# Altium schematic symbol library GPSLIB.SchLib: 2 symbols
Pins are listed as number, name and electrical type; pins without a type are passive.

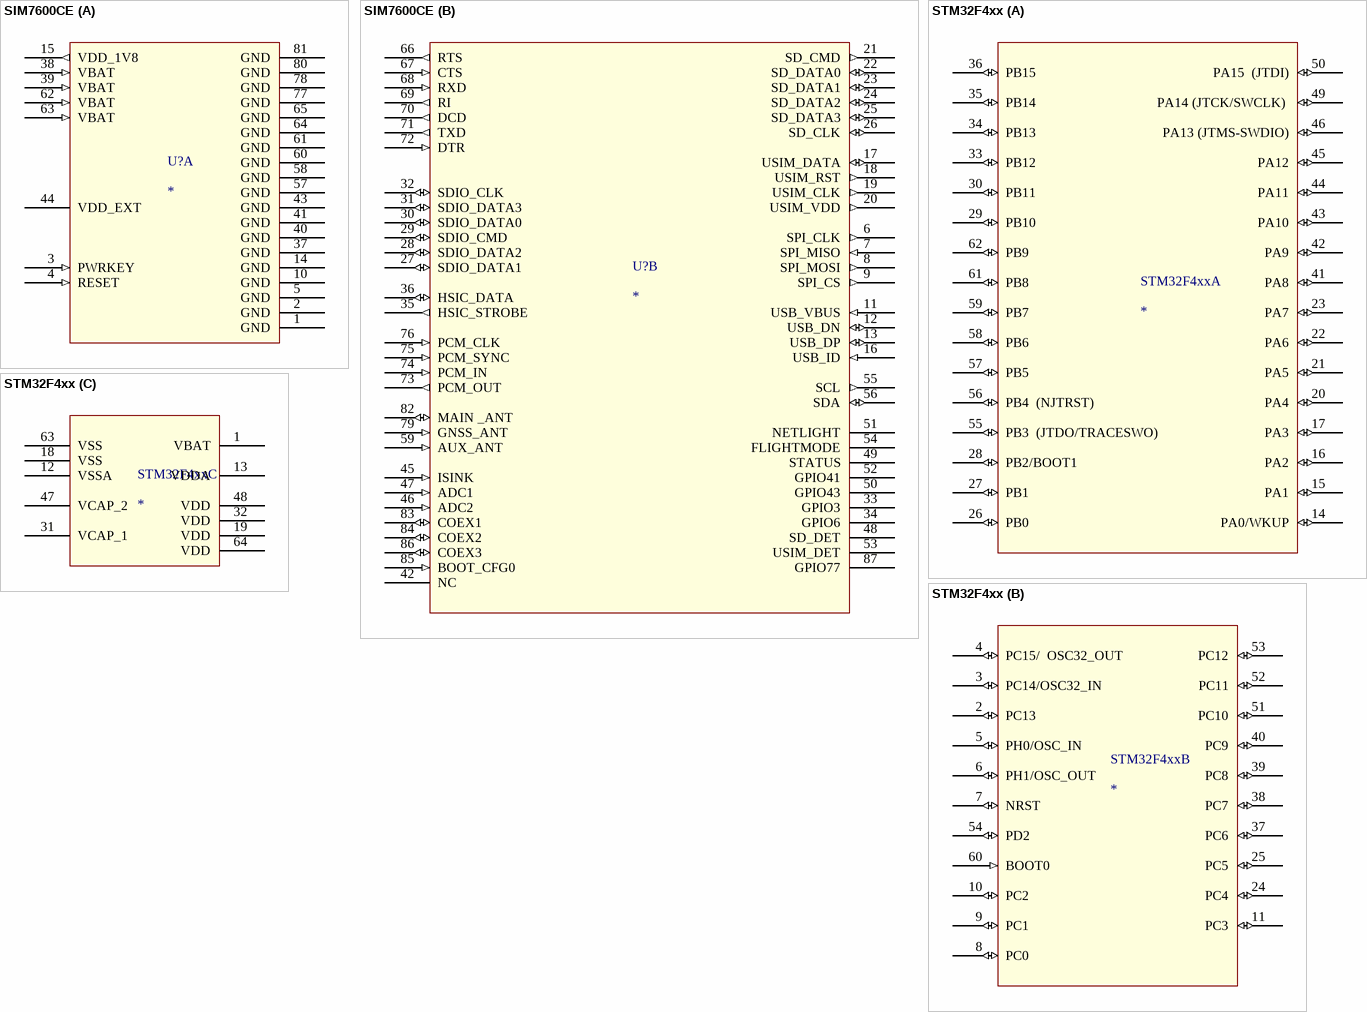
[diagram p0: symbols SIM7600CE to STM32F4xx]

## SIM7600CE
designator U?
footprint sim7600ce (Module sim 7600CE)
part A pins: 1 GND (power), 2 GND (power), 3 PWRKEY (in), 4 RESET (in), 5 GND (power), 10 GND (power), 14 GND (power), 15 VDD_1V8 (out), 37 GND (power), 38 VBAT (in), 39 VBAT (in), 40 GND (power), 41 GND (power), 43 GND (power), 44 VDD_EXT (power), 57 GND (power), 58 GND (power), 60 GND (power), 61 GND (power), 62 VBAT (in), 63 VBAT (in), 64 GND (power), 65 GND (power), 77 GND (power), 78 GND (power), 80 GND (power), 81 GND (power)
part B pins: 6 SPI_CLK (out), 7 SPI_MISO (in), 8 SPI_MOSI (out), 9 SPI_CS (out), 11 USB_VBUS (in), 12 USB_DN (io), 13 USB_DP (io), 16 USB_ID (in), 17 USIM_DATA (io), 18 USIM_RST (out), 19 USIM_CLK (out), 20 USIM_VDD (out), 21 SD_CMD (out), 22 SD_DATA0 (io), 23 SD_DATA1 (io), 24 SD_DATA2 (io), 25 SD_DATA3 (io), 26 SD_CLK (io), 27 SDIO_DATA1 (io), 28 SDIO_DATA2 (io), 29 SDIO_CMD (io), 30 SDIO_DATA0 (io), 31 SDIO_DATA3 (io), 32 SDIO_CLK (io), 33 GPIO3, 34 GPIO6, 35 HSIC_STROBE (out), 36 HSIC_DATA (io), 42 NC, 45 ISINK (in), 46 ADC2 (in), 47 ADC1 (in), 48 SD_DET, 49 STATUS, 50 GPIO43, 51 NETLIGHT, 52 GPIO41, 53 USIM_DET, 54 FLIGHTMODE, 55 SCL (out), 56 SDA (io), 59 AUX_ANT (in), 66 RTS (out), 67 CTS (in), 68 RXD (in), 69 RI (out), 70 DCD (out), 71 TXD (out), 72 DTR (in), 73 PCM_OUT (out), 74 PCM_IN (in), 75 PCM_SYNC (in), 76 PCM_CLK (in), 79 GNSS_ANT (in), 82 MAIN _ANT (io), 83 COEX1 (io), 84 COEX2 (io), 85 BOOT_CFG0 (in), 86 COEX3 (io), 87 GPIO77

## STM32F4xx
designator STM32F4xx
footprint STM32F4xx
part A pins: 14 PA0/WKUP (io), 15 PA1 (io), 16 PA2 (io), 17 PA3 (io), 20 PA4 (io), 21 PA5 (io), 22 PA6 (io), 23 PA7 (io), 26 PB0 (io), 27 PB1 (io), 28 PB2/BOOT1 (io), 29 PB10 (io), 30 PB11 (io), 33 PB12 (io), 34 PB13 (io), 35 PB14 (io), 36 PB15 (io), 41 PA8 (io), 42 PA9 (io), 43 PA10 (io), 44 PA11 (io), 45 PA12 (io), 46 PA13 (JTMS-SWDIO) (io), 49 PA14 (JTCK/SWCLK)  (io), 50 PA15  (JTDI) (io), 55 PB3  (JTDO/TRACESWO) (io), 56 PB4  (NJTRST) (io), 57 PB5 (io), 58 PB6 (io), 59 PB7 (io), 61 PB8 (io), 62 PB9 (io)
part B pins: 2 PC13 (io), 3 PC14/OSC32_IN (io), 4 PC15/  OSC32_OUT (io), 5 PH0/OSC_IN (io), 6 PH1/OSC_OUT (io), 7 NRST (io), 8 PC0 (io), 9 PC1 (io), 10 PC2 (io), 11 PC3 (io), 24 PC4 (io), 25 PC5 (io), 37 PC6 (io), 38 PC7 (io), 39 PC8 (io), 40 PC9 (io), 51 PC10 (io), 52 PC11 (io), 53 PC12 (io), 54 PD2 (io), 60 BOOT0 (in)
part C pins: 1 VBAT (power), 12 VSSA (power), 13 VDDA (power), 18 VSS (power), 19 VDD (power), 31 VCAP_1  (power), 32 VDD (power), 47 VCAP_2 (power), 48 VDD (power), 63 VSS (power), 64 VDD (power)